# EAGLE library part VNH5019 (library HelmholtzCage)
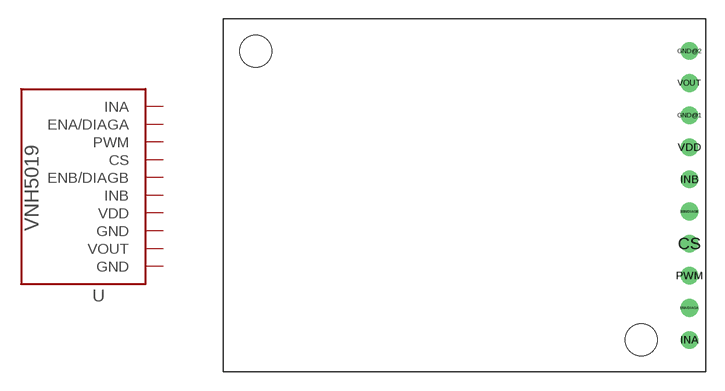
[diagram p0: symbol with the pads of VNH5019; footprint VNH5019]

Designator prefix -

## VNH5019  [VNH5019]
CS  CS  out
EBN/DIAGB  ENB/DIAGB
ENA/DIAGA  ENA/DIAGA
GND@1  GND  pwr
GND@2  GND  pwr
INA  INA  in
INB  INB  in
PWM  PWM  in
VDD  VDD  pwr
VOUT  VOUT  pwr

## Footprint VNH5019 (pad centres in mm)
Footprint for VNH5019 for Helmholtz Cage
drill 0.889: CS 17.78,-3.81; EBN/DIAGB 17.78,-1.27; ENA/DIAGA 17.78,-8.89; GND@1 17.78,6.35; GND@2 17.78,11.43; INA 17.78,-11.43; INB 17.78,1.27; PWM 17.78,-6.35; VDD 17.78,3.81; VOUT 17.78,8.89
hole 2.54 at -16.51,11.43
hole 2.54 at 13.97,-11.43